# Altium footprint library Keebs.PcbLib: 219 footprints (part 12 of 14)
Each footprint in its own frame and in the unit in brackets; x right, y up, seen from the top. Pads: shape width x height; smd on the part's side, far side on the other; paste and mask are expansions set on the pad; w line width, h text height; cw(c..) or ccw(c..) is an arc to the next point about the centre after c.
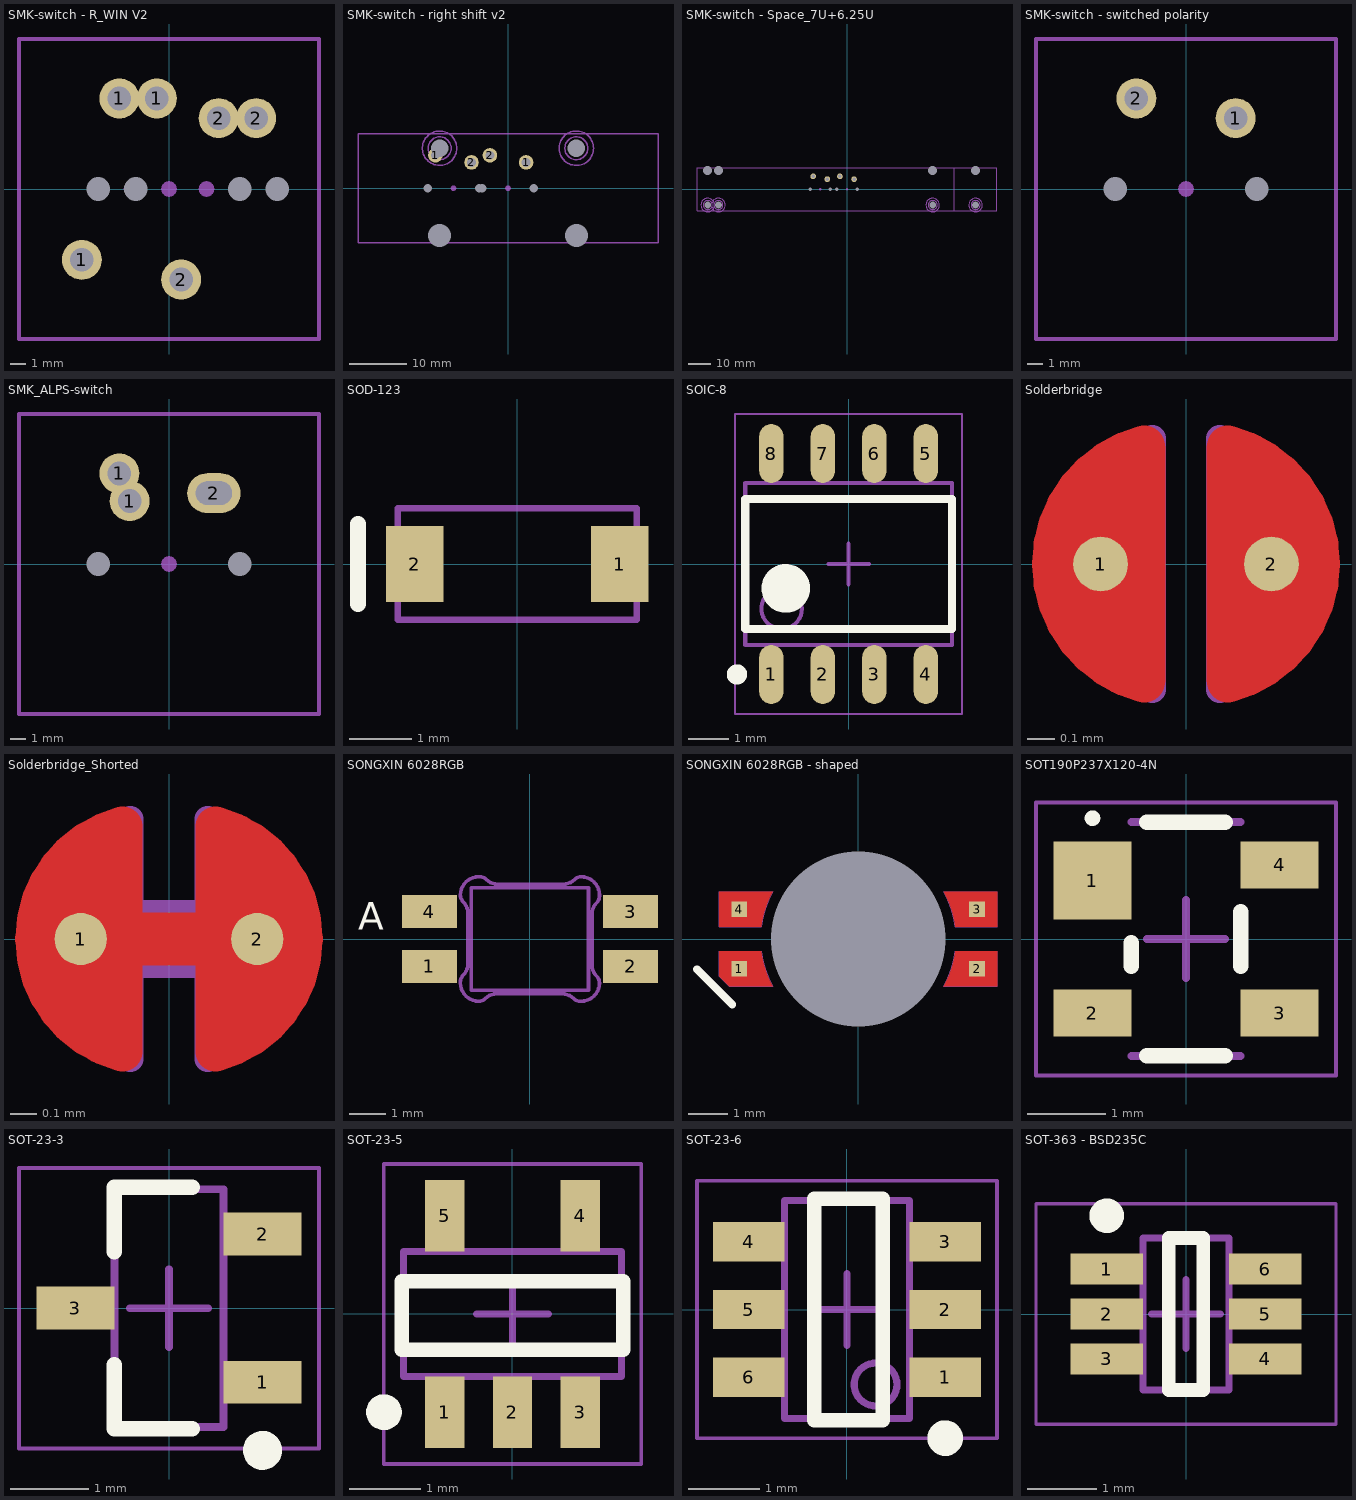
[diagram p11: the footprints below, top view; thin cyan lines are the x and y axes]

## SMK-switch - R_WIN V2 [mm] "Common tsangan and WK bottom + AEK"
pads (13):
  round 2.54 hole 1.5 mask-0.5: 1(-5.531,-4.5) 1(-3.15,5.75) 1(-0.769,5.75) 2(0.769,-5.75) 2(3.15,4.5) 2(5.531,4.5)
  round 1 hole 1.5 unplated: ""(-4.5,0) ""(-2.119,0) ""(4.5,0) ""(6.881,0)
  round 1 on Mech13: ""(-2.381,0) ""(0,0) ""(2.381,0)
Mechanical 13:
  lines w0.254: -9.525,-9.525 -9.525,9.525 9.525,9.525 9.525,-9.525 -9.525,-9.525
  text ".Designator" at -4.225,-8.325 h0.7

## SMK-switch - right shift v2 [mm]
pads (14):
  round 2.54 hole 1.5 mask-0.5: 1(-12.675,5.75) 1(3.15,4.5) 2(-6.375,4.5) 2(-3.15,5.75)
  round 1 hole 1.5 unplated: ""(-14.025,0) ""(-5.025,0) ""(-4.5,0) ""(4.5,0)
  round 1.524 hole 4 unplated: ""(-11.938,-8.255) ""(11.938,-8.255)
  round 1.524 hole 3.048 unplated: ""(-11.938,6.985) ""(11.938,6.985)
  round 1 on Mech13: ""(-9.525,0) ""(0,0)
Mechanical 13:
  lines w0.254: -26.194,-9.525 -26.194,9.525 26.194,9.525 26.194,-9.525 -26.194,-9.525
  text ".Designator" at -4.3,-5.55 h0.7
Mechanical 15:
  circle w0.254: c11.938,6.985 r2
  circle w0.254: c11.938,6.985 r3
  circle w0.254: c-11.938,6.985 r2
  circle w0.254: c-11.938,6.985 r3

## SMK-switch - Space_7U+6.25U [mm]
pads (18):
  round 2.54 hole 1.5 mask-0.5: 1(-8.756,4.5) 1(-3.15,5.75) 2(-15.056,5.75) 2(3.15,4.5)
  round 1.524 hole 3.048 unplated: ""(-61.91,-6.985) ""(-57.15,-6.985) ""(38.09,-6.985) ""(57.15,-6.985)
  round 1.524 hole 4 unplated: ""(-61.91,8.255) ""(-57.15,8.255) ""(38.09,8.255) ""(57.15,8.255)
  round 1 hole 1.5 unplated: ""(-16.406,0) ""(-7.406,0) ""(-4.5,0) ""(4.5,0)
  round 1 on Mech13: ""(-11.906,0) ""(0,0)
Mechanical 13:
  lines w0.254: 47.621,-9.525 47.621,9.525 ; -66.675,-9.525 -66.675,9.525 66.675,9.525 66.675,-9.525 -66.675,-9.525
  text ".Designator" at 7.625,-2.4 h0.7
Mechanical 15:
  circle w0.254: c57.15,-6.985 r3
  circle w0.254: c57.15,-6.985 r2
  circle w0.254: c38.09,-6.985 r3
  circle w0.254: c38.09,-6.985 r2
  circle w0.254: c-57.15,-6.985 r3
  circle w0.254: c-57.15,-6.985 r2
  circle w0.254: c-61.91,-6.985 r3
  circle w0.254: c-61.91,-6.985 r2
  text "7U" at 65.831,-1.85 h1.52
  text "6.25U" at 46.265,-3.6 h1.52

## SMK-switch - switched polarity [mm]
pads (5):
  round 2.54 hole 1.5 mask-0.5: 1(3.15,4.5) 2(-3.15,5.75)
  round 1 hole 1.5 unplated: ""(-4.5,0) ""(4.5,0)
  round 1 on Mech13: ""(0,0)
Mechanical 13:
  lines w0.254: -9.525,-9.525 9.525,-9.525 9.525,9.525 -9.525,9.525 -9.525,-9.525
  text ".Designator" at -3.575,-3.7 h0.7

## SMK_ALPS-switch [mm]
pads (6):
  round 2.54 hole 1.5 mask-0.5: 1(-3.15,5.75) 1(-2.5,4)
  oval 3.4x2.54 hole 1.5 slot 2.3 at 0 deg mask-1: 2(2.85,4.5)
  round 1 hole 1.5 unplated: ""(-4.5,0) ""(4.5,0)
  round 1 on Mech13: ""(0,0)
Mechanical 13:
  lines w0.254: -9.525,-9.525 9.525,-9.525 9.525,9.525 -9.525,9.525 -9.525,-9.525
  text ".Designator" at -3.575,-3.7 h0.7

## SOD-123 [mm]
pads (2):
  rect 0.91x1.22 smd: 1(1.635,0) 2(-1.635,0)
Top Overlay:
  lines w0.254: -2.54,-0.635 -2.54,0.635
Mechanical 13:
  lines w0.1: -1.905,-0.889 -1.905,0.889 1.905,0.889 1.905,-0.889 -1.905,-0.889
  text ".Designator" at -1.524,-0.127 h0.35
3D body "sod123 v4.step": height 1.2, standoff 0, extent -1.875,-0.85 1.875,0.85

## SOIC-8 [mm] "Based on AT24C256C datasheet"
height 1.75
pads (8):
  oval 0.6x1.45 smd: 1(-1.905,-2.725) 2(-0.635,-2.725) 3(0.635,-2.725) 4(1.905,-2.725) 5(1.905,2.725) 6(0.635,2.725) 7(-0.635,2.725) 8(-1.905,2.725)
Top Overlay:
  circle w0.6: c-1.55,-0.6 r0.3
  circle w0.25: c-2.755,-2.725 r0.125
  lines w0.2: -2.55,-1.6 -2.55,1.6 2.55,1.6 2.55,-1.6 -2.55,-1.6
Mechanical 13:
  circle w0.1: c-1.65,-1.1 r0.5
  lines w0.1: -2.55,-2 -2.55,2 2.55,2 2.55,-2 -2.55,-2
  text ".Designator" at -1.879,0.233 h0.45
Mechanical 15:
  lines w0.05: -2.8,-3.7 -2.8,3.7 2.8,3.7 2.8,-3.7 -2.8,-3.7
  lines w0.1: -0.5,0 0.5,0 ; 0,-0.5 0,0.5
3D body "SOIC-8.step": height 1.75, standoff 0, extent -2.55,-2.997 2.55,2.997

## Solderbridge [mm]
pads (2):
  round 0.2 smd paste-10: 1(-0.312,0) 2(0.312,0)
Top Layer:
  region: -0.077,-0.432 -0.152,-0.505 -0.271,-0.467 -0.335,-0.424 -0.409,-0.351 -0.462,-0.292 -0.521,-0.193 -0.549,-0.099 -0.544,0.122 -0.518,0.193 -0.434,0.33 -0.351,0.411 -0.259,0.469 -0.157,0.5 -0.107,0.483 -0.077,0.43
  region: 0.077,0.432 0.152,0.505 0.271,0.467 0.335,0.424 0.409,0.351 0.462,0.292 0.521,0.193 0.549,0.099 0.544,-0.122 0.518,-0.193 0.434,-0.33 0.351,-0.411 0.259,-0.469 0.157,-0.5 0.107,-0.483 0.077,-0.43
  lines w0.152: -0.153,-0.431 cw(c-0.042,0) -0.487,0 cw(c-0.042,0) -0.153,0.431 ; 0.153,-0.431 ccw(c0.042,0) 0.153,0.431
Top Solder:
  circle w0.61: c-0.003,0 r0.279
Mechanical 7:
  lines w0.1: -0.123,-0.459 cw(c-0.042,0) -0.123,0.459 -0.123,-0.459 ; 0.123,-0.459 ccw(c0.042,0) 0.123,0.459 0.123,-0.459
  text ".Designator" at 0.635,-0.152 h0.3

## Solderbridge_Shorted [mm]
pads (2):
  round 0.2 smd paste-10: 1(-0.338,0) 2(0.338,0)
Top Layer:
  region: 0.102,0.432 0.178,0.505 0.296,0.467 0.361,0.424 0.434,0.351 0.488,0.292 0.546,0.193 0.574,0.099 0.569,-0.122 0.544,-0.193 0.46,-0.33 0.376,-0.411 0.284,-0.469 0.183,-0.5 0.132,-0.483 0.102,-0.43
  region: -0.102,-0.432 -0.178,-0.505 -0.296,-0.467 -0.361,-0.424 -0.434,-0.351 -0.488,-0.292 -0.546,-0.193 -0.574,-0.099 -0.569,0.122 -0.544,0.193 -0.46,0.33 -0.376,0.411 -0.284,0.469 -0.183,0.5 -0.132,0.483 -0.102,0.43
  lines w0.152: -0.178,-0.431 cw(c-0.068,0) -0.178,0.431 ; 0.178,-0.431 ccw(c0.068,0) 0.178,0.431
  lines w0.203: -0.338,0 0.338,0
Top Solder:
  circle w0.61: c-0.028,0 r0.279
  circle w0.61: c0.028,0 r0.279
Mechanical 7:
  lines w0.1: -0.148,-0.459 cw(c-0.067,0) -0.148,0.459 -0.148,0.1 0.148,0.1 0.148,0.459 cw(c0.067,0) 0.148,-0.459 0.148,-0.1 -0.148,-0.1 -0.148,-0.459
  text ".Designator" at 0.635,-0.152 h0.3

## SONGXIN 6028RGB [mm] "Common Anode reverse mount LED"
pads (4):
  rect 1.5x0.9 smd: 1(-2.75,-0.75) 2(2.75,-0.75) 3(2.75,0.75) 4(-2.75,0.75)
Top Overlay:
  text "A" at -4.699,0.254 h0.75
Mechanical 1:
  lines w0.1: -1.9,-1.2 ccw(c-1.4,-1.2) -1.4,-1.7 ccw(c-1.4,-1.446) -1.22,-1.626 cw(c-0.914,-1.932) -0.914,-1.499 0.887,-1.499 cw(c0.887,-1.932) 1.194,-1.626 ccw(c1.373,-1.446) 1.373,-1.7 ; -1.9,-1.173 cw(c-1.646,-1.173) -1.826,-0.994 ccw(c-2.132,-0.687) -1.699,-0.687 -1.699,0.714 ccw(c-2.132,0.714) -1.826,1.02 cw(c-1.646,1.2) -1.9,1.2 cw(c-1.4,1.2) -1.4,1.7 -1.373,1.7 cw(c-1.373,1.446) -1.194,1.626 ccw(c-0.887,1.932) -0.887,1.499 0.914,1.499 ccw(c0.914,1.932) 1.22,1.626 cw(c1.4,1.446) 1.4,1.7 cw(c1.4,1.2) 1.9,1.2 ; 1.4,-1.7 ccw(c1.4,-1.2) 1.9,-1.2 ccw(c1.646,-1.2) 1.826,-1.02 cw(c2.132,-0.714) 1.699,-0.714 1.699,0.687 cw(c2.132,0.687) 1.826,0.994 ccw(c1.646,1.173) 1.9,1.173
Mechanical 13:
  lines w0.1: -1.6,-1.4 -1.6,1.4 ; -1.6,-1.4 1.6,-1.4 ; -1.6,-1.4 -1.6,1.4 ; -1.6,-1.4 1.6,-1.4 ; -1.6,1.4 1.6,1.4 ; -1.6,1.4 1.6,1.4 ; 1.6,-1.4 1.6,1.4 ; 1.6,-1.4 1.6,1.4
  text ".Designator" at -1.27,-0.127 h0.35
3D body "LED_SK6812MINI-E.step": height 0.94, standoff -0.84, extent -2.94,-1.403 2.94,1.397

## SONGXIN 6028RGB - shaped [mm] "Common Anode reverse mount LED"
pads (5):
  rect 0.4x0.4 smd: 1(-3,-0.75) 2(3,-0.75) 3(3,0.75) 4(-3,0.75)
  round 1 hole 4.4 unplated: ""(0,0)
Top Layer:
  region: -3.25,-1.195 -3.5,-0.945 -3.5,-0.304 -2.449,-0.304 -2.447,-0.304 -2.43,-0.421 -2.378,-0.651 -2.305,-0.875 -2.211,-1.091 -2.157,-1.195
  region: 2.157,-1.195 3.5,-1.195 3.5,-0.304 2.449,-0.304 2.447,-0.304 2.43,-0.421 2.378,-0.651 2.305,-0.875 2.211,-1.091
  region: 2.447,0.304 2.43,0.421 2.378,0.651 2.305,0.875 2.211,1.091 2.157,1.195 3.5,1.195 3.5,0.304
  region: -3.5,0.304 -3.5,1.195 -2.157,1.195 -2.211,1.091 -2.305,0.875 -2.378,0.651 -2.43,0.421 -2.447,0.304 -2.449,0.304
Top Overlay:
  lines w0.2: -4.064,-0.762 -3.175,-1.651
Mechanical 7:
  lines w0.01: -2.449,-0.304 -3.455,-0.304 -3.5,-0.304 -3.5,-0.945 -3.25,-1.195 -2.211,-1.195 -2.157,-1.195 cw(c0,0) -2.447,-0.304 ; -2.449,0.304 -3.455,0.304 -3.5,0.304 -3.5,0.349 -3.5,1.154 -3.5,1.195 -3.476,1.195 -2.211,1.195 -2.157,1.195 ccw(c0,0) -2.447,0.304 ; 2.447,-0.304 cw(c0,0) 2.157,-1.195 2.211,-1.195 3.476,-1.195 3.5,-1.195 3.5,-1.154 3.5,-0.349 3.5,-0.304 3.455,-0.304 2.449,-0.304 ; 2.447,0.304 ccw(c0,0) 2.157,1.195 2.211,1.195 3.476,1.195 3.5,1.195 3.5,1.154 3.5,0.349 3.5,0.304 3.455,0.304 2.449,0.304
Mechanical 13:
  lines w0.1: -1.6,-1.4 1.6,-1.4 1.6,1.4 -1.6,1.4 -1.6,-1.4
  text ".Designator" at -1.27,-0.127 h0.35
3D body "LED_SK6812MINI-E.step": height 0.94, standoff -0.84, extent -2.94,-1.403 2.94,1.397

## SOT190P237X120-4N [mm] "SOT143, 4-Leads, Body 3,00x2,37mm, Pitch 1,90mm, IPC Medium Density"
height 1.2
pads (4):
  rect 1x1 smd: 1(-1.2,0.75)
  rect 1x0.6 smd: 2(-1.2,-0.95) 3(1.2,-0.95) 4(1.2,0.95)
Top Overlay:
  circle w0.1: c-1.2,1.55 r0.05
  lines w0.2: -0.7,-0.35 -0.7,-0.05 ; -0.5,-1.5 0.5,-1.5 ; -0.5,1.5 0.5,1.5 ; 0.7,-0.35 0.7,0.35
Mechanical 13:
  lines w0.1: -0.7,-1.5 0.7,-1.5 ; -0.7,1.5 0.7,1.5
  text ".Designator" at 0.1,-1.325 h0.35
Mechanical 15:
  lines w0.05: -1.925,-1.75 -1.925,1.75 1.925,1.75 1.925,-1.75 -1.925,-1.75
  lines w0.1: -0.5,0 0.5,0 ; 0,-0.5 0,0.5
3D body "SOT143B.step": height 1.09, standoff 0, extent -1.245,-1.499 1.245,1.499

## SOT-23-3 [mm] "3.3v regulator, used in Windsond S2 proto 1"
height 1.12
pads (3):
  rect 1x0.55 smd: 1(1.2,-0.95) 2(1.2,0.95) 3(-1.2,0)
Top Overlay:
  circle w0.25: c1.2,-1.825 r0.125
  lines w0.2: -0.7,-0.725 -0.7,-1.55 0.3,-1.55 ; -0.7,0.725 -0.7,1.55 0.3,1.55
Mechanical 13:
  lines w0.1: -0.7,-1.525 0.7,-1.525 0.7,1.525 -0.7,1.525 -0.7,-1.525
  text ".Designator" at 0.275,-1.625 h0.45
Mechanical 15:
  lines w0.05: -1.925,-1.8 1.925,-1.8 1.925,1.8 -1.925,1.8 -1.925,-1.8
  lines w0.1: -0.5,0 0.5,0 ; 0,-0.5 0,0.5
3D body "SOT-23.stp": height 1, standoff 0, extent -1.102,-1.5 1.448,1.5

## SOT-23-5 [mm]
height 1.45
pads (5):
  rect 0.55x1 smd: 1(-0.95,-1.375) 2(0,-1.375) 3(0.95,-1.375) 4(0.95,1.375) 5(-0.95,1.375)
Top Overlay:
  circle w0.25: c-1.8,-1.375 r0.125
  lines w0.2: -1.55,-0.5 -1.55,0.457 1.55,0.457 1.55,-0.5 -1.55,-0.5
Mechanical 13:
  lines w0.1: -1.525,-0.875 1.525,-0.875 1.525,0.875 -1.525,0.875 -1.525,-0.875
  text ".Designator" at 1.525,0.2 h0.45
Mechanical 15:
  lines w0.05: -1.8,-2.1 1.8,-2.1 1.8,2.1 -1.8,2.1 -1.8,-2.1
  lines w0.1: 0,-0.5 0,0.5 ; -0.5,0 0.5,0 -0.5,0
3D body "SOT23_5.stp": height 0.92, standoff 0.01, extent -1.5,-1.6 1.5,1.604

## SOT-23-6 [mm]
height 1.45
pads (6):
  rect 1x0.55 smd: 1(1.375,-0.95) 2(1.375,0) 3(1.375,0.95) 4(-1.375,0.95) 5(-1.375,0) 6(-1.375,-0.95)
Top Overlay:
  circle w0.25: c1.375,-1.8 r0.125
  lines w0.2: -0.457,-1.55 0.5,-1.55 0.5,1.55 -0.457,1.55 -0.457,-1.55
Mechanical 13:
  circle w0.1: c0.4,-1.05 r0.3
  lines w0.1: -0.875,-1.525 -0.875,1.525 0.875,1.525 0.875,-1.525 -0.875,-1.525
  text ".Designator" at -0.33,1.473 h0.45
Mechanical 15:
  lines w0.05: -2.1,-1.8 -2.1,1.8 2.1,1.8 2.1,-1.8 -2.1,-1.8
  lines w0.1: -0.5,0 0.5,0 ; 0,-0.5 0,0.5
3D body "sot-23-6.stp": height 1.05, standoff -0.06, extent -1.472,-1.485 1.373,1.436

## SOT-363 - BSD235C [mm] "SOT23, 6-Leads, Body 2,00x2,10mm, Pitch 0,65mm, IPC Low Density"
height 0.9
pads (6):
  rect 1.05x0.45 smd: 1(-1.15,0.65) 2(-1.15,0) 3(-1.15,-0.65) 4(1.15,-0.65) 5(1.15,0) 6(1.15,0.65)
Top Overlay:
  circle w0.25: c-1.15,1.425 r0.125
  lines w0.2: -0.25,-1.1 0.25,-1.1 0.25,1.1 -0.25,1.1 -0.25,-1.1
Mechanical 13:
  lines w0.1: -0.625,-1.1 -0.625,1.1 0.625,1.1 0.625,-1.1 -0.625,-1.1
  text ".Designator" at -0.225,0.925 h0.35
Mechanical 15:
  lines w0.05: -2.175,-1.6 -2.175,1.6 2.175,1.6 2.175,-1.6 -2.175,-1.6
  lines w0.1: -0.5,0 0.5,0 ; 0,-0.5 0,0.5
3D body "SOT-363 - BSD235C.step": height 0.9, standoff 0, extent -1.2,-1.1 1.2,1.1